# EAGLE library part PICAXE-28X2 (library PICAXE)
PICAXE chips come in two series – the M2 and X2 series – and 6 physical sizes (8, 14, 18, 20, 28, 40 pin). Feature 08M2 14M2 18M2 20M2 20X2 28X2 40X2 Memory Capacity(bytes) 2048 2048 x2 2048 x2 2048 x2 4096 4096 x4 4096 x4 RAM (bytes) 128 512 512 512 256 1280 1280 Byte Variables (bytes) 28 28 28 28 56 56 56 Input/Outputs Pins 6 12 16 18 18 22 33 ADC/Touch Pins 3 7 10 11 11 16 27 Max. Freq. (MHz) 32 32 32 32 64 64 64 Serial In/Out Yes Yes Yes Yes Yes Yes Yes Infrared In/Out Yes Yes Yes Yes Yes Yes Yes I2C Yes Yes Yes Yes Yes Yes Yes Tune (ring tones) Yes Yes Yes Yes Yes Yes Yes Parallel Tasks 4 8 8 8 1 1 1 Program Slots 1 2 2 2 1 4 4
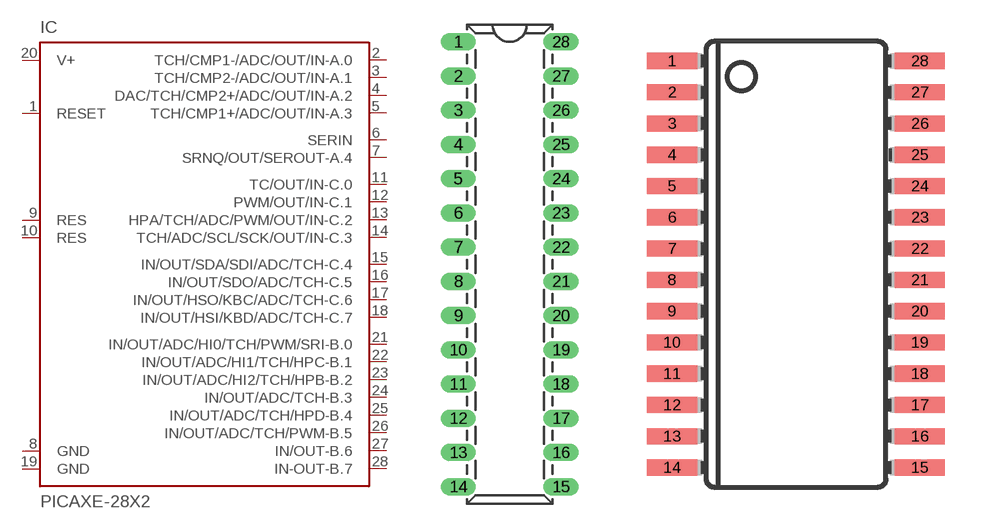
[diagram p4: symbol with the pads of DIL28; footprints DIL28, SOIC28W]

Designator prefix IC

## PICAXE-28X2-DIL  [DIL28]
1  RESET  pwr
2  TCH/CMP1-/ADC/OUT/IN-A.0
3  TCH/CMP2-/ADC/OUT/IN-A.1
4  DAC/TCH/CMP2+/ADC/OUT/IN-A.2
5  TCH/CMP1+/ADC/OUT/IN-A.3
6  SERIN  in
7  SRNQ/OUT/SEROUT-A.4  out
8  GND  pwr
9  RES
10  RES
11  TC/OUT/IN-C.0
12  PWM/OUT/IN-C.1
13  HPA/TCH/ADC/PWM/OUT/IN-C.2
14  TCH/ADC/SCL/SCK/OUT/IN-C.3
15  IN/OUT/SDA/SDI/ADC/TCH-C.4
16  IN/OUT/SDO/ADC/TCH-C.5
17  IN/OUT/HSO/KBC/ADC/TCH-C.6
18  IN/OUT/HSI/KBD/ADC/TCH-C.7
19  GND  pwr
20  V+  pwr
21  IN/OUT/ADC/HI0/TCH/PWM/SRI-B.0
22  IN/OUT/ADC/HI1/TCH/HPC-B.1
23  IN/OUT/ADC/HI2/TCH/HPB-B.2
24  IN/OUT/ADC/TCH-B.3
25  IN/OUT/ADC/TCH/HPD-B.4
26  IN/OUT/ADC/TCH/PWM-B.5
27  IN/OUT-B.6
28  IN-OUT-B.7

## PICAXE-28X2-SMD  [SOIC28W]
Pads as for DIL28

## Footprint DIL28 (pad centres in mm)
drill 0.8 pad 1.27 long: 1 -3.81,16.51; 2 -3.81,13.97; 3 -3.81,11.43; 4 -3.81,8.89; 5 -3.81,6.35; 6 -3.81,3.81; 7 -3.81,1.27; 8 -3.81,-1.27; 9 -3.81,-3.81; 10 -3.81,-6.35; 11 -3.81,-8.89; 12 -3.81,-11.43; 13 -3.81,-13.97; 14 -3.81,-16.51; 15 3.81,-16.51; 16 3.81,-13.97; 17 3.81,-11.43; 18 3.81,-8.89; 19 3.81,-6.35; 20 3.81,-3.81; 21 3.81,-1.27; 22 3.81,1.27; 23 3.81,3.81; 24 3.81,6.35; 25 3.81,8.89; 26 3.81,11.43; 27 3.81,13.97; 28 3.81,16.51

## Footprint SOIC28W (pad centres in mm)
smd 2.032 x 0.66: 1 -5.029,8.255; 2 -5.029,6.985; 3 -5.029,5.715; 4 -5.029,4.445; 5 -5.029,3.175; 6 -5.029,1.905; 7 -5.029,0.635; 8 -5.029,-0.635; 9 -5.029,-1.905; 10 -5.029,-3.175; 11 -5.029,-4.445; 12 -5.029,-5.715; 13 -5.029,-6.985; 14 -5.029,-8.255; 15 5.029,-8.255; 16 5.029,-6.985; 17 5.029,-5.715; 18 5.029,-4.445; 19 5.029,-3.175; 20 5.029,-1.905; 21 5.029,-0.635; 22 5.029,0.635; 23 5.029,1.905; 24 5.029,3.175; 25 5.029,4.445; 26 5.029,5.715; 27 5.029,6.985; 28 5.029,8.255